# EAGLE library part IV-17 (library Russian-VFD-tubes)
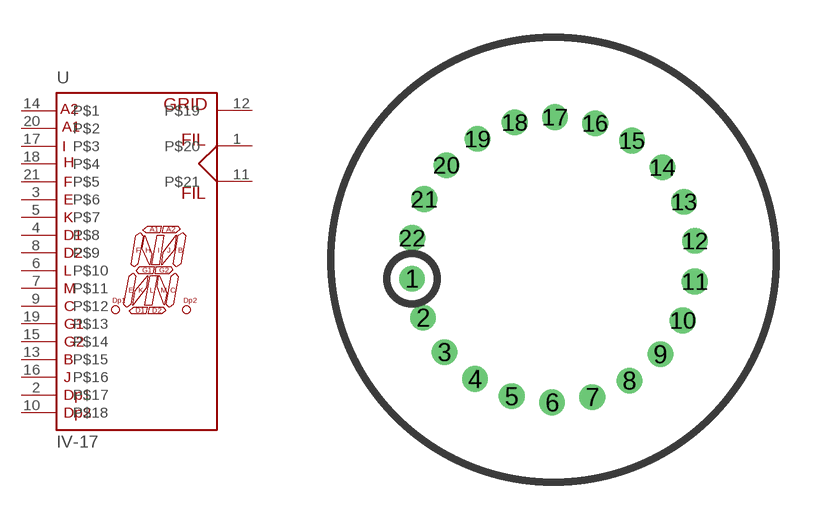
[diagram p6: symbol with the pads of IV-17; footprint IV-17]

Designator prefix -

## IV-17  [IV-17]
1  P$20
2  P$17
3  P$6
4  P$8
5  P$7
6  P$10
7  P$11
8  P$9
9  P$12
10  P$18
11  P$21
12  P$19
13  P$15
14  P$1
15  P$14
16  P$16
17  P$3
18  P$4
19  P$13
20  P$2
21  P$5

## Footprint IV-17 (pad centres in mm)
Eagle SCR autogenerated 22 pin Nixie socket
drill 0.525: 1 -5.705,-0.647; 2 -5.262,-2.216; 3 -4.395,-3.596; 4 -3.173,-4.677; 5 -1.697,-5.369; 6 -0.086,-5.617; 7 1.53,-5.402; 8 3.02,-4.74; 9 4.263,-3.684; 10 5.159,-2.322; 11 5.634,-0.762; 12 5.65,0.868; 13 5.207,2.437; 14 4.34,3.818; 15 3.118,4.898; 16 1.642,5.59; 17 0.031,5.839; 18 -1.585,5.623; 19 -3.075,4.961; 20 -4.318,3.906; 21 -5.214,2.543; 22 -5.689,0.983